# Altium integrated library Sumida Flexible SMD Jumper.IntLib: 22 symbols
Pins are listed as number, name and electrical type; pins without a type are passive.

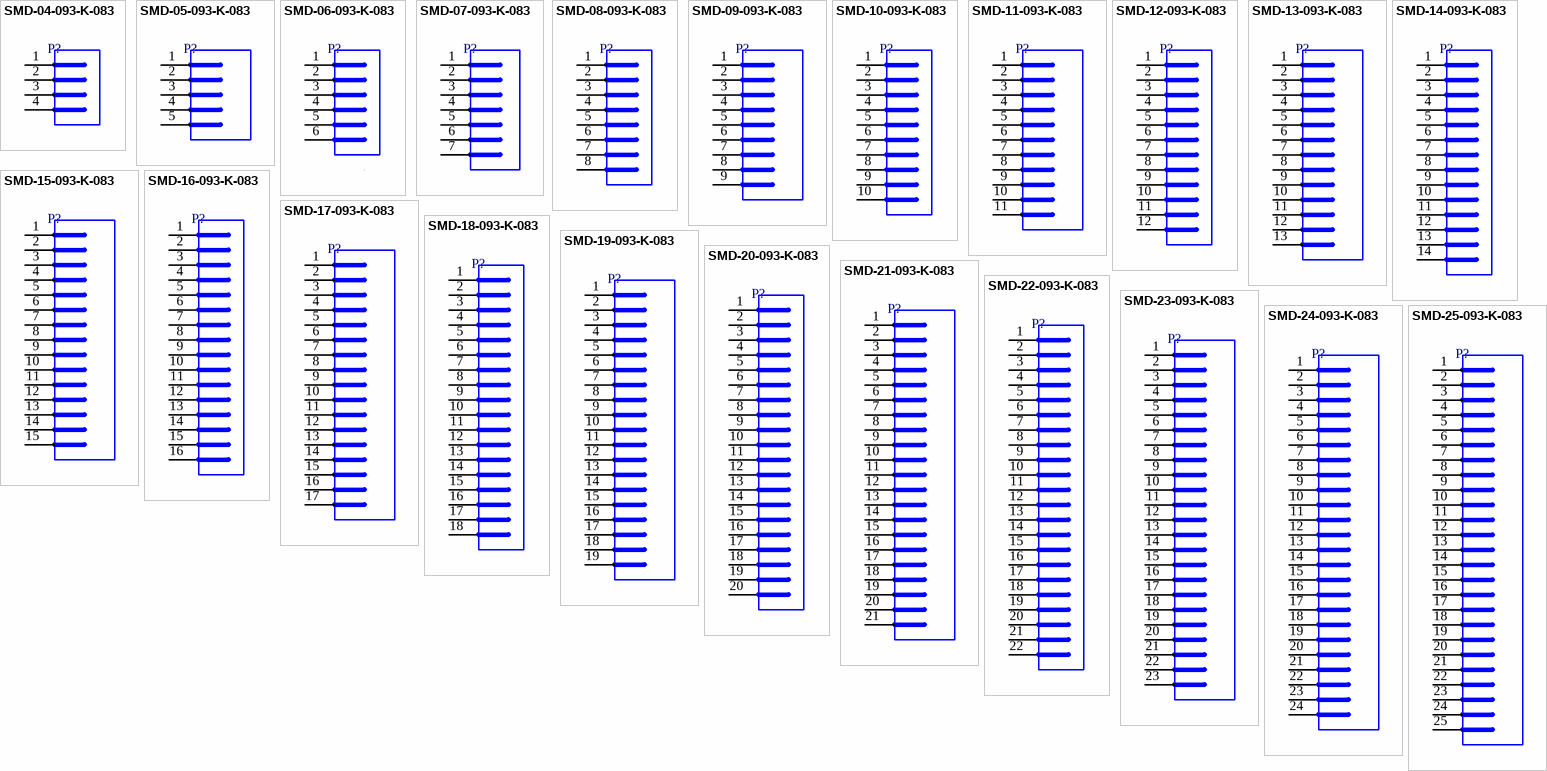
[diagram p0: symbols SMD-04-093-K-083 to SMD-25-093-K-083]

## SMD-04-093-K-083
designator P?
Flexible SMD Jumper, Pitch 0.93 mm, 4 Pins; Manufacturer: SUMIDA flexible connections GmbH; PartNumber: SMD-04-093-K-083; Pitch: 0.93 mm; Direct Sales (Phone): +49 3528 4040-30; Direct Sales (Email): infoflexible@eu.sumida.com; Direct Sales (Address): Agathe-Zeis-Straße 5, 01454 Radeberg, Germany; PackageReference: SMD-04-093-K-083; PackageDescription: Flexible SMD Jumper, Pitch 0.93 mm, 4 Pins; Temperature Min: -40 degC; Temperature Max: 125 degC; Mounting Technology: Surface Mount; ComponentLink1Description: Manufacturer URL; ComponentLink1URL: http://sumida-flexcon.com; ComponentLink2Description: Product Catalog; ComponentLink2URL: http://smd-flex-jumper.com; ComponentLink3Description: Product URL; ComponentLink3URL: http://smd-flex-jumper.com
footprint SUM-SMD-04-093-K-083_V (SMD, 4-Leads, Pitch 0.93mm)
pins: 1, 2, 3, 4

## SMD-05-093-K-083
designator P?
Flexible SMD Jumper, Pitch 0.93 mm, 5 Pins; Manufacturer: SUMIDA flexible connections GmbH; PartNumber: SMD-05-093-K-083; Pitch: 0.93 mm; Direct Sales (Phone): +49 3528 4040-30; Direct Sales (Email): infoflexible@eu.sumida.com; Direct Sales (Address): Agathe-Zeis-Straße 5, 01454 Radeberg, Germany; PackageReference: SMD-05-093-K-083; PackageDescription: Flexible SMD Jumper, Pitch 0.93 mm, 5 Pins; Temperature Min: -40 degC; Temperature Max: 125 degC; Mounting Technology: Surface Mount; ComponentLink1Description: Manufacturer URL; ComponentLink1URL: http://sumida-flexcon.com; ComponentLink2Description: Product Catalog; ComponentLink2URL: http://smd-flex-jumper.com; ComponentLink3Description: Product URL; ComponentLink3URL: http://smd-flex-jumper.com
footprint SUM-SMD-05-093-K-083_V (SMD, 5-Leads, Pitch 0.93mm)
pins: 1, 2, 3, 4, 5

## SMD-06-093-K-083
designator P?
Flexible SMD Jumper, Pitch 0.93 mm, 6 Pins; Manufacturer: SUMIDA flexible connections GmbH; PartNumber: SMD-06-093-K-083; Pitch: 0.93 mm; Direct Sales (Phone): +49 3528 4040-30; Direct Sales (Email): infoflexible@eu.sumida.com; Direct Sales (Address): Agathe-Zeis-Straße 5, 01454 Radeberg, Germany; PackageReference: SMD-06-093-K-083; PackageDescription: Flexible SMD Jumper, Pitch 0.93 mm, 6 Pins; Temperature Min: -40 degC; Temperature Max: 125 degC; Mounting Technology: Surface Mount; ComponentLink1Description: Manufacturer URL; ComponentLink1URL: http://sumida-flexcon.com; ComponentLink2Description: Product Catalog; ComponentLink2URL: http://smd-flex-jumper.com; ComponentLink3Description: Product URL; ComponentLink3URL: http://smd-flex-jumper.com
footprint SUM-SMD-06-093-K-083_V (SMD, 6-Leads, Pitch 0.93mm)
pins: 1, 2, 3, 4, 5, 6

## SMD-07-093-K-083
designator P?
Flexible SMD Jumper, Pitch 0.93 mm, 7 Pins; Manufacturer: SUMIDA flexible connections GmbH; PartNumber: SMD-07-093-K-083; Pitch: 0.93 mm; Direct Sales (Phone): +49 3528 4040-30; Direct Sales (Email): infoflexible@eu.sumida.com; Direct Sales (Address): Agathe-Zeis-Straße 5, 01454 Radeberg, Germany; PackageReference: SMD-07-093-K-083; PackageDescription: Flexible SMD Jumper, Pitch 0.93 mm, 7 Pins; Temperature Min: -40 degC; Temperature Max: 125 degC; Mounting Technology: Surface Mount; ComponentLink1Description: Manufacturer URL; ComponentLink1URL: http://sumida-flexcon.com; ComponentLink2Description: Product Catalog; ComponentLink2URL: http://smd-flex-jumper.com; ComponentLink3Description: Product URL; ComponentLink3URL: http://smd-flex-jumper.com
footprint SUM-SMD-07-093-K-083_V (SMD, 7-Leads, Pitch 0.93mm)
pins: 1, 2, 3, 4, 5, 6, 7

## SMD-08-093-K-083
designator P?
Flexible SMD Jumper, Pitch 0.93 mm, 8 Pins; Manufacturer: SUMIDA flexible connections GmbH; PartNumber: SMD-08-093-K-083; Pitch: 0.93 mm; Direct Sales (Phone): +49 3528 4040-30; Direct Sales (Email): infoflexible@eu.sumida.com; Direct Sales (Address): Agathe-Zeis-Straße 5, 01454 Radeberg, Germany; PackageReference: SMD-08-093-K-083; PackageDescription: Flexible SMD Jumper, Pitch 0.93 mm, 8 Pins; Temperature Min: -40 degC; Temperature Max: 125 degC; Mounting Technology: Surface Mount; ComponentLink1Description: Manufacturer URL; ComponentLink1URL: http://sumida-flexcon.com; ComponentLink2Description: Product Catalog; ComponentLink2URL: http://smd-flex-jumper.com; ComponentLink3Description: Product URL; ComponentLink3URL: http://smd-flex-jumper.com
footprint SUM-SMD-08-093-K-083_V (SMD, 8-Leads, Pitch 0.93mm)
pins: 1, 2, 3, 4, 5, 6, 7, 8

## SMD-09-093-K-083
designator P?
Flexible SMD Jumper, Pitch 0.93 mm, 9 Pins; Manufacturer: SUMIDA flexible connections GmbH; PartNumber: SMD-09-093-K-083; Pitch: 0.93 mm; Direct Sales (Phone): +49 3528 4040-30; Direct Sales (Email): infoflexible@eu.sumida.com; Direct Sales (Address): Agathe-Zeis-Straße 5, 01454 Radeberg, Germany; PackageReference: SMD-09-093-K-083; PackageDescription: Flexible SMD Jumper, Pitch 0.93 mm, 9 Pins; Temperature Min: -40 degC; Temperature Max: 125 degC; Mounting Technology: Surface Mount; ComponentLink1Description: Manufacturer URL; ComponentLink1URL: http://sumida-flexcon.com; ComponentLink2Description: Product Catalog; ComponentLink2URL: http://smd-flex-jumper.com; ComponentLink3Description: Product URL; ComponentLink3URL: http://smd-flex-jumper.com
footprint SUM-SMD-09-093-K-083_V (SMD, 09-Leads, Pitch 0.93mm)
pins: 1, 2, 3, 4, 5, 6, 7, 8, 9

## SMD-10-093-K-083
designator P?
Flexible SMD Jumper, Pitch 0.93 mm, 10 Pins; Manufacturer: SUMIDA flexible connections GmbH; PartNumber: SMD-10-093-K-083; Pitch: 0.93 mm; Direct Sales (Phone): +49 3528 4040-30; Direct Sales (Email): infoflexible@eu.sumida.com; Direct Sales (Address): Agathe-Zeis-Straße 5, 01454 Radeberg, Germany; PackageReference: SMD-10-093-K-083; PackageDescription: Flexible SMD Jumper, Pitch 0.93 mm, 10 Pins; Temperature Min: -40 degC; Temperature Max: 125 degC; Mounting Technology: Surface Mount; ComponentLink1Description: Manufacturer URL; ComponentLink1URL: http://sumida-flexcon.com; ComponentLink2Description: Product Catalog; ComponentLink2URL: http://smd-flex-jumper.com; ComponentLink3Description: Product URL; ComponentLink3URL: http://smd-flex-jumper.com
footprint SUM-SMD-10-093-K-083_V (SMD, 10-Leads, Pitch 0.93mm)
pins: 1, 2, 3, 4, 5, 6, 7, 8, 9, 10

## SMD-11-093-K-083
designator P?
Flexible SMD Jumper, Pitch 0.93 mm, 11 Pins; Manufacturer: SUMIDA flexible connections GmbH; PartNumber: SMD-11-093-K-083; Pitch: 0.93 mm; Direct Sales (Phone): +49 3528 4040-30; Direct Sales (Email): infoflexible@eu.sumida.com; Direct Sales (Address): Agathe-Zeis-Straße 5, 01454 Radeberg, Germany; PackageReference: SMD-11-093-K-083; PackageDescription: Flexible SMD Jumper, Pitch 0.93 mm, 11 Pins; Temperature Min: -40 degC; Temperature Max: 125 degC; Mounting Technology: Surface Mount; ComponentLink1Description: Manufacturer URL; ComponentLink1URL: http://sumida-flexcon.com; ComponentLink2Description: Product Catalog; ComponentLink2URL: http://smd-flex-jumper.com; ComponentLink3Description: Product URL; ComponentLink3URL: http://smd-flex-jumper.com
footprint SUM-SMD-11-093-K-083_V (SMD, 11-Leads, Pitch 0.93mm)
pins: 1, 2, 3, 4, 5, 6, 7, 8, 9, 10, 11

## SMD-12-093-K-083
designator P?
Flexible SMD Jumper, Pitch 0.93 mm, 12 Pins; Manufacturer: SUMIDA flexible connections GmbH; PartNumber: SMD-12-093-K-083; Pitch: 0.93 mm; Direct Sales (Phone): +49 3528 4040-30; Direct Sales (Email): infoflexible@eu.sumida.com; Direct Sales (Address): Agathe-Zeis-Straße 5, 01454 Radeberg, Germany; PackageReference: SMD-12-093-K-083; PackageDescription: Flexible SMD Jumper, Pitch 0.93 mm, 12 Pins; Temperature Min: -40 degC; Temperature Max: 125 degC; Mounting Technology: Surface Mount; ComponentLink1Description: Manufacturer URL; ComponentLink1URL: http://sumida-flexcon.com; ComponentLink2Description: Product Catalog; ComponentLink2URL: http://smd-flex-jumper.com; ComponentLink3Description: Product URL; ComponentLink3URL: http://smd-flex-jumper.com
footprint SUM-SMD-12-093-K-083_V (SMD, 12-Leads, Pitch 0.93mm)
pins: 1, 2, 3, 4, 5, 6, 7, 8, 9, 10, 11, 12

## SMD-13-093-K-083
designator P?
Flexible SMD Jumper, Pitch 0.93 mm, 13 Pins; Manufacturer: SUMIDA flexible connections GmbH; PartNumber: SMD-13-093-K-083; Pitch: 0.93 mm; Direct Sales (Phone): +49 3528 4040-30; Direct Sales (Email): infoflexible@eu.sumida.com; Direct Sales (Address): Agathe-Zeis-Straße 5, 01454 Radeberg, Germany; PackageReference: SMD-13-093-K-083; PackageDescription: Flexible SMD Jumper, Pitch 0.93 mm, 13 Pins; Temperature Min: -40 degC; Temperature Max: 125 degC; Mounting Technology: Surface Mount; ComponentLink1Description: Manufacturer URL; ComponentLink1URL: http://sumida-flexcon.com; ComponentLink2Description: Product Catalog; ComponentLink2URL: http://smd-flex-jumper.com; ComponentLink3Description: Product URL; ComponentLink3URL: http://smd-flex-jumper.com
footprint SUM-SMD-13-093-K-083_V (SMD, 13-Leads, Pitch 0.93mm)
pins: 1, 2, 3, 4, 5, 6, 7, 8, 9, 10, 11, 12, 13

## SMD-14-093-K-083
designator P?
Flexible SMD Jumper, Pitch 0.93 mm, 14 Pins; Manufacturer: SUMIDA flexible connections GmbH; PartNumber: SMD-14-093-K-083; Pitch: 0.93 mm; Direct Sales (Phone): +49 3528 4040-30; Direct Sales (Email): infoflexible@eu.sumida.com; Direct Sales (Address): Agathe-Zeis-Straße 5, 01454 Radeberg, Germany; PackageReference: SMD-14-093-K-083; PackageDescription: Flexible SMD Jumper, Pitch 0.93 mm, 14 Pins; Temperature Min: -40 degC; Temperature Max: 125 degC; Mounting Technology: Surface Mount; ComponentLink1Description: Manufacturer URL; ComponentLink1URL: http://sumida-flexcon.com; ComponentLink2Description: Product Catalog; ComponentLink2URL: http://smd-flex-jumper.com; ComponentLink3Description: Product URL; ComponentLink3URL: http://smd-flex-jumper.com
footprint SUM-SMD-14-093-K-083_V (SMD, 14-Leads, Pitch 0.93mm)
pins: 1, 2, 3, 4, 5, 6, 7, 8, 9, 10, 11, 12, 13, 14

## SMD-15-093-K-083
designator P?
Flexible SMD Jumper, Pitch 0.93 mm, 15 Pins; Manufacturer: SUMIDA flexible connections GmbH; PartNumber: SMD-15-093-K-083; Pitch: 0.93 mm; Direct Sales (Phone): +49 3528 4040-30; Direct Sales (Email): infoflexible@eu.sumida.com; Direct Sales (Address): Agathe-Zeis-Straße 5, 01454 Radeberg, Germany; PackageReference: SMD-15-093-K-083; PackageDescription: Flexible SMD Jumper, Pitch 0.93 mm, 15 Pins; Temperature Min: -40 degC; Temperature Max: 125 degC; Mounting Technology: Surface Mount; ComponentLink1Description: Manufacturer URL; ComponentLink1URL: http://sumida-flexcon.com; ComponentLink2Description: Product Catalog; ComponentLink2URL: http://smd-flex-jumper.com; ComponentLink3Description: Product URL; ComponentLink3URL: http://smd-flex-jumper.com
footprint SUM-SMD-15-093-K-083_V (SMD, 15-Leads, Pitch 0.93mm)
pins: 1, 2, 3, 4, 5, 6, 7, 8, 9, 10, 11, 12, 13, 14, 15

## SMD-16-093-K-083
designator P?
Flexible SMD Jumper, Pitch 0.93 mm, 16 Pins; Manufacturer: SUMIDA flexible connections GmbH; PartNumber: SMD-16-093-K-083; Pitch: 0.93 mm; Direct Sales (Phone): +49 3528 4040-30; Direct Sales (Email): infoflexible@eu.sumida.com; Direct Sales (Address): Agathe-Zeis-Straße 5, 01454 Radeberg, Germany; PackageReference: SMD-16-093-K-083; PackageDescription: Flexible SMD Jumper, Pitch 0.93 mm, 16 Pins; Temperature Min: -40 degC; Temperature Max: 125 degC; Mounting Technology: Surface Mount; ComponentLink1Description: Manufacturer URL; ComponentLink1URL: http://sumida-flexcon.com; ComponentLink2Description: Product Catalog; ComponentLink2URL: http://smd-flex-jumper.com; ComponentLink3Description: Product URL; ComponentLink3URL: http://smd-flex-jumper.com
footprint SUM-SMD-16-093-K-083_V (SMD, 16-Leads, Pitch 0.93mm)
pins: 1, 2, 3, 4, 5, 6, 7, 8, 9, 10, 11, 12, 13, 14, 15, 16

## SMD-17-093-K-083
designator P?
Flexible SMD Jumper, Pitch 0.93 mm, 17 Pins; Manufacturer: SUMIDA flexible connections GmbH; PartNumber: SMD-17-093-K-083; Pitch: 0.93 mm; Direct Sales (Phone): +49 3528 4040-30; Direct Sales (Email): infoflexible@eu.sumida.com; Direct Sales (Address): Agathe-Zeis-Straße 5, 01454 Radeberg, Germany; PackageReference: SMD-17-093-K-083; PackageDescription: Flexible SMD Jumper, Pitch 0.93 mm, 17 Pins; Temperature Min: -40 degC; Temperature Max: 125 degC; Mounting Technology: Surface Mount; ComponentLink1Description: Manufacturer URL; ComponentLink1URL: http://sumida-flexcon.com; ComponentLink2Description: Product Catalog; ComponentLink2URL: http://smd-flex-jumper.com; ComponentLink3Description: Product URL; ComponentLink3URL: http://smd-flex-jumper.com
footprint SUM-SMD-17-093-K-083_V (SMD, 17-Leads, Pitch 0.93mm)
pins: 1, 2, 3, 4, 5, 6, 7, 8, 9, 10, 11, 12, 13, 14, 15, 16, 17

## SMD-18-093-K-083
designator P?
Flexible SMD Jumper, Pitch 0.93 mm, 18 Pins; Manufacturer: SUMIDA flexible connections GmbH; PartNumber: SMD-18-093-K-083; Pitch: 0.93 mm; Direct Sales (Phone): +49 3528 4040-30; Direct Sales (Email): infoflexible@eu.sumida.com; Direct Sales (Address): Agathe-Zeis-Straße 5, 01454 Radeberg, Germany; PackageReference: SMD-18-093-K-083; PackageDescription: Flexible SMD Jumper, Pitch 0.93 mm, 18 Pins; Temperature Min: -40 degC; Temperature Max: 125 degC; Mounting Technology: Surface Mount; ComponentLink1Description: Manufacturer URL; ComponentLink1URL: http://sumida-flexcon.com; ComponentLink2Description: Product Catalog; ComponentLink2URL: http://smd-flex-jumper.com; ComponentLink3Description: Product URL; ComponentLink3URL: http://smd-flex-jumper.com
footprint SUM-SMD-18-093-K-083_V (SMD, 18-Leads, Pitch 0.93mm)
pins: 1, 2, 3, 4, 5, 6, 7, 8, 9, 10, 11, 12, 13, 14, 15, 16, 17, 18

## SMD-19-093-K-083
designator P?
Flexible SMD Jumper, Pitch 0.93 mm, 19 Pins; Manufacturer: SUMIDA flexible connections GmbH; PartNumber: SMD-19-093-K-083; Pitch: 0.93 mm; Direct Sales (Phone): +49 3528 4040-30; Direct Sales (Email): infoflexible@eu.sumida.com; Direct Sales (Address): Agathe-Zeis-Straße 5, 01454 Radeberg, Germany; PackageReference: SMD-19-093-K-083; PackageDescription: Flexible SMD Jumper, Pitch 0.93 mm, 19 Pins; Temperature Min: -40 degC; Temperature Max: 125 degC; Mounting Technology: Surface Mount; ComponentLink1Description: Manufacturer URL; ComponentLink1URL: http://sumida-flexcon.com; ComponentLink2Description: Product Catalog; ComponentLink2URL: http://smd-flex-jumper.com; ComponentLink3Description: Product URL; ComponentLink3URL: http://smd-flex-jumper.com
footprint SUM-SMD-19-093-K-083_V (SMD, 19-Leads, Pitch 0.93mm)
pins: 1, 2, 3, 4, 5, 6, 7, 8, 9, 10, 11, 12, 13, 14, 15, 16, 17, 18, 19

## SMD-20-093-K-083
designator P?
Flexible SMD Jumper, Pitch 0.93 mm, 20 Pins; Manufacturer: SUMIDA flexible connections GmbH; PartNumber: SMD-20-093-K-083; Pitch: 0.93 mm; Direct Sales (Phone): +49 3528 4040-30; Direct Sales (Email): infoflexible@eu.sumida.com; Direct Sales (Address): Agathe-Zeis-Straße 5, 01454 Radeberg, Germany; PackageReference: SMD-20-093-K-083; PackageDescription: Flexible SMD Jumper, Pitch 0.93 mm, 20 Pins; Temperature Min: -40 degC; Temperature Max: 125 degC; Mounting Technology: Surface Mount; ComponentLink1Description: Manufacturer URL; ComponentLink1URL: http://sumida-flexcon.com; ComponentLink2Description: Product Catalog; ComponentLink2URL: http://smd-flex-jumper.com; ComponentLink3Description: Product URL; ComponentLink3URL: http://smd-flex-jumper.com
footprint SUM-SMD-20-093-K-083_V (SMD, 20-Leads, Pitch 0.93mm)
pins: 1, 2, 3, 4, 5, 6, 7, 8, 9, 10, 11, 12, 13, 14, 15, 16, 17, 18, 19, 20

## SMD-21-093-K-083
designator P?
Flexible SMD Jumper, Pitch 0.93 mm, 21 Pins; Manufacturer: SUMIDA flexible connections GmbH; PartNumber: SMD-21-093-K-083; Pitch: 0.93 mm; Direct Sales (Phone): +49 3528 4040-30; Direct Sales (Email): infoflexible@eu.sumida.com; Direct Sales (Address): Agathe-Zeis-Straße 5, 01454 Radeberg, Germany; PackageReference: SMD-21-093-K-083; PackageDescription: Flexible SMD Jumper, Pitch 0.93 mm, 21 Pins; Temperature Min: -40 degC; Temperature Max: 125 degC; Mounting Technology: Surface Mount; ComponentLink1Description: Manufacturer URL; ComponentLink1URL: http://sumida-flexcon.com; ComponentLink2Description: Product Catalog; ComponentLink2URL: http://smd-flex-jumper.com; ComponentLink3Description: Product URL; ComponentLink3URL: http://smd-flex-jumper.com
footprint SUM-SMD-21-093-K-083_V (SMD, 21-Leads, Pitch 0.93mm)
pins: 1, 2, 3, 4, 5, 6, 7, 8, 9, 10, 11, 12, 13, 14, 15, 16, 17, 18, 19, 20, 21

## SMD-22-093-K-083
designator P?
Flexible SMD Jumper, Pitch 0.93 mm, 22 Pins; Manufacturer: SUMIDA flexible connections GmbH; PartNumber: SMD-22-093-K-083; Pitch: 0.93 mm; Direct Sales (Phone): +49 3528 4040-30; Direct Sales (Email): infoflexible@eu.sumida.com; Direct Sales (Address): Agathe-Zeis-Straße 5, 01454 Radeberg, Germany; PackageReference: SMD-22-093-K-083; PackageDescription: Flexible SMD Jumper, Pitch 0.93 mm, 22 Pins; Temperature Min: -40 degC; Temperature Max: 125 degC; Mounting Technology: Surface Mount; ComponentLink1Description: Manufacturer URL; ComponentLink1URL: http://sumida-flexcon.com; ComponentLink2Description: Product Catalog; ComponentLink2URL: http://smd-flex-jumper.com; ComponentLink3Description: Product URL; ComponentLink3URL: http://smd-flex-jumper.com
footprint SUM-SMD-22-093-K-083_V (SMD, 22-Leads, Pitch 0.93mm)
pins: 1, 2, 3, 4, 5, 6, 7, 8, 9, 10, 11, 12, 13, 14, 15, 16, 17, 18, 19, 20, 21, 22

## SMD-23-093-K-083
designator P?
Flexible SMD Jumper, Pitch 0.93 mm, 23 Pins; Manufacturer: SUMIDA flexible connections GmbH; PartNumber: SMD-23-093-K-083; Pitch: 0.93 mm; Direct Sales (Phone): +49 3528 4040-30; Direct Sales (Email): infoflexible@eu.sumida.com; Direct Sales (Address): Agathe-Zeis-Straße 5, 01454 Radeberg, Germany; PackageReference: SMD-23-093-K-083; PackageDescription: Flexible SMD Jumper, Pitch 0.93 mm, 23 Pins; Temperature Min: -40 degC; Temperature Max: 125 degC; Mounting Technology: Surface Mount; ComponentLink1Description: Manufacturer URL; ComponentLink1URL: http://sumida-flexcon.com; ComponentLink2Description: Product Catalog; ComponentLink2URL: http://smd-flex-jumper.com; ComponentLink3Description: Product URL; ComponentLink3URL: http://smd-flex-jumper.com
footprint SUM-SMD-23-093-K-083_V (SMD, 23-Leads, Pitch 0.93mm)
pins: 1, 2, 3, 4, 5, 6, 7, 8, 9, 10, 11, 12, 13, 14, 15, 16, 17, 18, 19, 20, 21, 22, 23

## SMD-24-093-K-083
designator P?
Flexible SMD Jumper, Pitch 0.93 mm, 24 Pins; Manufacturer: SUMIDA flexible connections GmbH; PartNumber: SMD-24-093-K-083; Pitch: 0.93 mm; Direct Sales (Phone): +49 3528 4040-30; Direct Sales (Email): infoflexible@eu.sumida.com; Direct Sales (Address): Agathe-Zeis-Straße 5, 01454 Radeberg, Germany; PackageReference: SMD-24-093-K-083; PackageDescription: Flexible SMD Jumper, Pitch 0.93 mm, 24 Pins; Temperature Min: -40 degC; Temperature Max: 125 degC; Mounting Technology: Surface Mount; ComponentLink1Description: Manufacturer URL; ComponentLink1URL: http://sumida-flexcon.com; ComponentLink2Description: Product Catalog; ComponentLink2URL: http://smd-flex-jumper.com; ComponentLink3Description: Product URL; ComponentLink3URL: http://smd-flex-jumper.com
footprint SUM-SMD-24-093-K-083_V (SMD, 24-Leads, Pitch 0.93mm)
pins: 1, 2, 3, 4, 5, 6, 7, 8, 9, 10, 11, 12, 13, 14, 15, 16, 17, 18, 19, 20, 21, 22, 23, 24

## SMD-25-093-K-083
designator P?
Flexible SMD Jumper, Pitch 0.93 mm, 25 Pins; Manufacturer: SUMIDA flexible connections GmbH; PartNumber: SMD-25-093-K-083; Pitch: 0.93 mm; Direct Sales (Phone): +49 3528 4040-30; Direct Sales (Email): infoflexible@eu.sumida.com; Direct Sales (Address): Agathe-Zeis-Straße 5, 01454 Radeberg, Germany; PackageReference: SMD-25-093-K-083; PackageDescription: Flexible SMD Jumper, Pitch 0.93 mm, 25 Pins; Temperature Min: -40 degC; Temperature Max: 125 degC; Mounting Technology: Surface Mount; ComponentLink1Description: Manufacturer URL; ComponentLink1URL: http://sumida-flexcon.com; ComponentLink2Description: Product Catalog; ComponentLink2URL: http://smd-flex-jumper.com; ComponentLink3Description: Product URL; ComponentLink3URL: http://smd-flex-jumper.com
footprint SUM-SMD-25-093-K-083_V (SMD, 25-Leads, Pitch 0.93mm)
pins: 1, 2, 3, 4, 5, 6, 7, 8, 9, 10, 11, 12, 13, 14, 15, 16, 17, 18, 19, 20, 21, 22, 23, 24, 25